# Altium schematic symbol library 保险丝.SchLib: 2 symbols
Pins are listed as number, name and electrical type; pins without a type are passive.

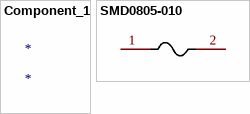
[diagram p0: symbols Component_1 to SMD0805-010]

## Component_1
designator *

## SMD0805-010
designator F??  (value not drawn)
Manufacturer: 台湾陆海; Add into BOM: yes; Operating Voltage (Max): 15V; Current Rating (Max): 100A; Hold Current: 100mA; Trip Current: 300mA; Name: SMD0805-010; Symbol: SMD0805-010; Device: SMD0805-010; LCSC Part Name: 15V 100mA 0805自恢复; Supplier Part: C70054; Manufacturer Part: SMD0805-010; Supplier Footprint: 0805; JLCPCB Part Class: Extended Part; Datasheet: https://atta.szlcsc.com/upload/public/pdf/source/20160331/1459396375698.pdf; Supplier: LCSC; Convert to PCB: yes
footprint F0805
3D model F0805_L2.1-W1.4-H0.8
pins: 1, 2